# Altium integrated library Chokes.IntLib: 1 symbol
Pins are listed as number, name and electrical type; pins without a type are passive.

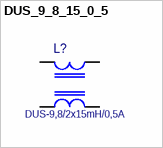
[diagram p0: symbol DUS_9_8_15_0_5]

## DUS_9_8_15_0_5
designator L?, comment DUS-9,8/2x15mH/0,5A
dławik (Feryster); PRICE: 1,58 zł; BUY_LINK: *; PDF: *; ID: DUS-9,8/2x15mH/0,5A
footprint DUS_9_8_15_0_5 (DUS-9,8/.15/0,5)
pins: 1, 2, 3, 4